# Altium schematic symbol library 680K.SchLib: 1 symbol
Pins are listed as number, name and electrical type; pins without a type are passive.

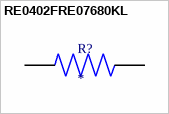
[diagram p0: symbol RE0402FRE07680KL]

## RE0402FRE07680KL
designator R?
680 kOhms Â±1% 0.063W, 1/16W Chip Resistor 0402 (1005 Metric) Thick Film; MF: Yageo; MP: RE0402FRE07680KL; SnapEDA_Link: https://www.snapeda.com/parts/RE0402FRE07680KL/Yageo/view-part/?ref=snap; Package: 1005 Yageo; Value: *; Check_prices: https://www.snapeda.com/parts/RE0402FRE07680KL/Yageo/view-part/?ref=eda
footprint RESC1005X37N
pins: 1, 2